# EAGLE library part ADCMP582 (library yapo)
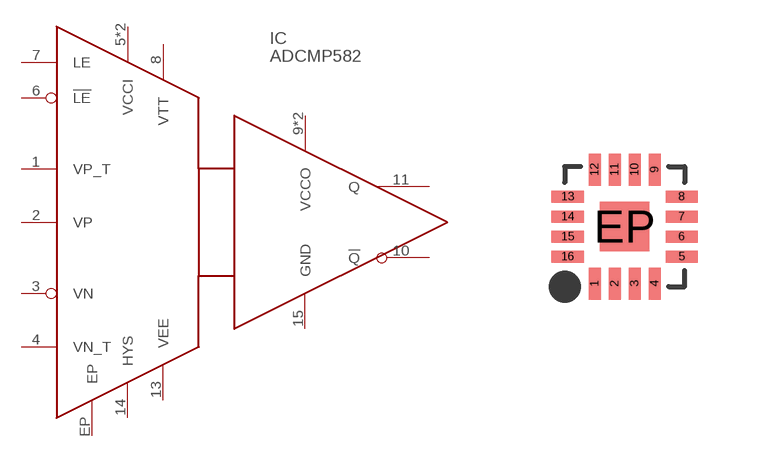
[diagram p60: symbol with the pads of TQFN16-EP; footprint TQFN16-EP]

Designator prefix IC

## ADCMP582  [TQFN16-EP]
1  VP_T
2  VP
3  VN
4  VN_T
5  VCCI
6  !LE!
7  LE
8  VTT
9  VCCO
10  !Q!
11  Q
12  VCCO
13  VEE
14  HYS
15  GND
16  VCCI
EP  EP

## Footprint TQFN16-EP (pad centres in mm)
smd 0.3 x 0.8: 1 -0.75,-1.425; 2 -0.25,-1.425; 3 0.25,-1.425; 4 0.75,-1.425; 9 0.75,1.425; 10 0.25,1.425; 11 -0.25,1.425; 12 -0.75,1.425
smd 0.8 x 0.3: 5 1.425,-0.75; 6 1.425,-0.25; 7 1.425,0.25; 8 1.425,0.75; 13 -1.425,0.75; 14 -1.425,0.25; 15 -1.425,-0.25; 16 -1.425,-0.75
smd 1.23 x 1.23: EP 0,0